# Altium integrated library Oscillator - Crystal.IntLib: 422 symbols (part 3 of 7)
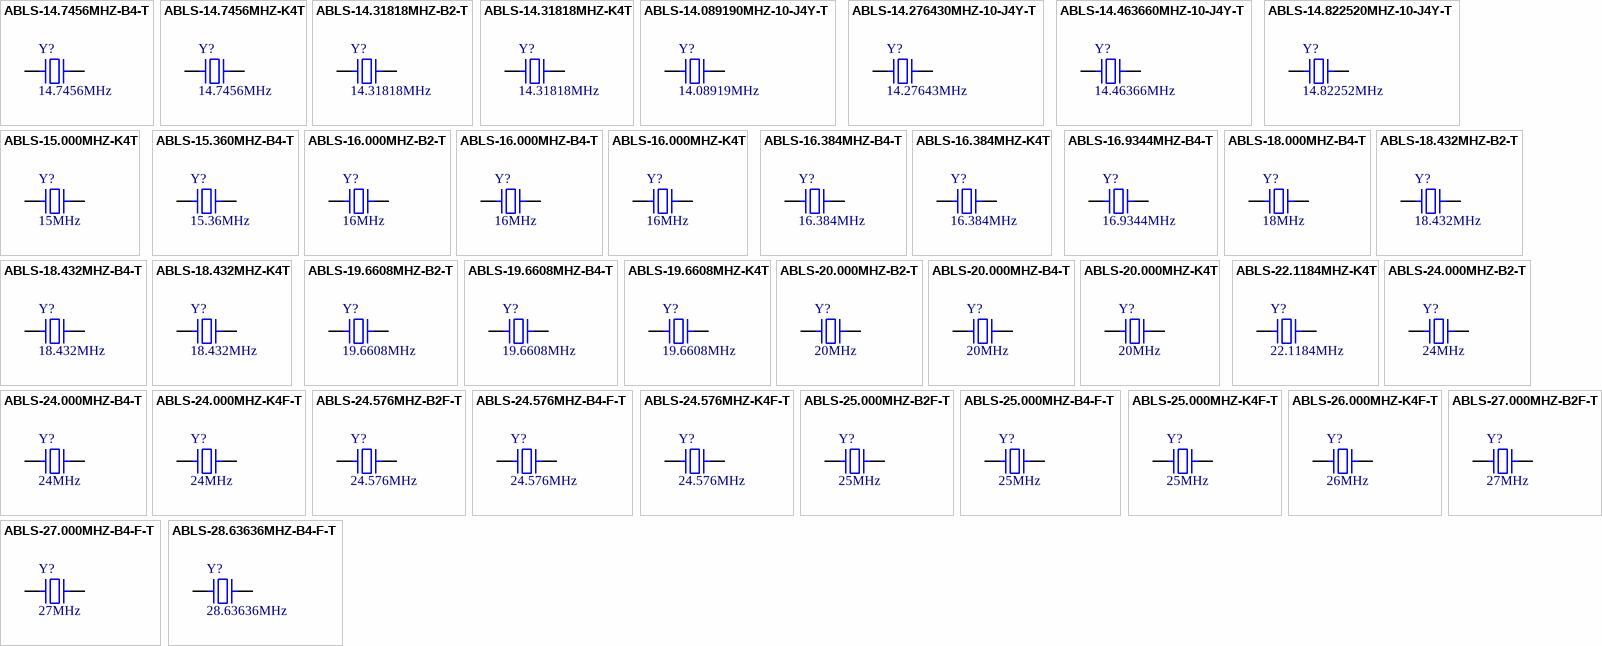
[diagram p12: symbols ABLS-14.7456MHZ-B4-T to ABLS-28.63636MHZ-B4-F-T]

## ABLS-18.432MHZ-K4T
designator Y?, comment 18.432MHz
CRYSTAL 18.4320MHZ 18PF SMD; Part Number: ABLS-18.432MHZ-K4T; Manufacturer: Abracon LLC; Frequency Stability: 50ppm; Frequency Tolerance: 30ppm; ESR: 40 Ohm; Operating Mode: Fundamental; PartId: 8580; Supplier 1: Digi-Key; Supplier Part Number 1: 535-9950-2-ND; ComponentLink1Description: Datasheet; ComponentLink1URL: http://www.abracon.com/Resonators/abls.pdf; ComponentLink2Description: Digi-Key Listing; ComponentLink2URL: https://www.digikey.com/product-detail/en/ABLS-18.432MHZ-K4T/535-9950-2-ND/2001317; Price: 0.405; Type: MHz Crystal; Device Package: HC49/US; Series: ABLS; Frequency: 18.432MHz; Load Capacitance: 18pF
footprint ABRACON ABLS
pins: 1, 2

## ABLS-19.6608MHZ-B2-T
designator Y?, comment 19.6608MHz
CRYSTAL 19.6608MHZ 18PF SMD; Part Number: ABLS-19.6608MHZ-B2-T; Manufacturer: Abracon LLC; Frequency Stability: 50ppm; Frequency Tolerance: 20ppm; ESR: 40 Ohm; Operating Mode: Fundamental; PartId: 8608; Supplier 1: Digi-Key; Supplier Part Number 1: 535-9073-2-ND; ComponentLink1Description: Datasheet; ComponentLink1URL: http://www.abracon.com/Resonators/abls.pdf; ComponentLink2Description: Digi-Key Listing; ComponentLink2URL: https://www.digikey.com/product-detail/en/ABLS-19.6608MHZ-B2-T/535-9073-2-ND/675268; Price: 0.24; Type: MHz Crystal; Device Package: HC49/US; Series: ABLS; Frequency: 19.6608MHz; Load Capacitance: 18pF
footprint ABRACON ABLS
pins: 1, 2

## ABLS-19.6608MHZ-B4-T
designator Y?, comment 19.6608MHz
CRYSTAL 19.6608MHZ 18PF SMD; Part Number: ABLS-19.6608MHZ-B4-T; Manufacturer: Abracon LLC; Frequency Stability: 50ppm; Frequency Tolerance: 30ppm; ESR: 40 Ohm; Operating Mode: Fundamental; PartId: 8603; Supplier 1: Digi-Key; Supplier Part Number 1: 535-10231-2-ND; ComponentLink1Description: Datasheet; ComponentLink1URL: http://www.abracon.com/Resonators/abls.pdf; ComponentLink2Description: Digi-Key Listing; ComponentLink2URL: https://www.digikey.com/product-detail/en/ABLS-19.6608MHZ-B4-T/535-10231-2-ND/2184174; Price: 0.176; Type: MHz Crystal; Device Package: HC49/US; Series: ABLS; Frequency: 19.6608MHz; Load Capacitance: 18pF
footprint ABRACON ABLS
pins: 1, 2

## ABLS-19.6608MHZ-K4T
designator Y?, comment 19.6608MHz
CRYSTAL 19.6608MHZ 18PF SMD; Part Number: ABLS-19.6608MHZ-K4T; Manufacturer: Abracon LLC; Frequency Stability: 50ppm; Frequency Tolerance: 30ppm; ESR: 40 Ohm; Operating Mode: Fundamental; PartId: 8623; Supplier 1: Digi-Key; Supplier Part Number 1: 535-9951-2-ND; ComponentLink1Description: Datasheet; ComponentLink1URL: http://www.abracon.com/Resonators/abls.pdf; ComponentLink2Description: Digi-Key Listing; ComponentLink2URL: https://www.digikey.com/product-detail/en/ABLS-19.6608MHZ-K4T/535-9951-2-ND/2001318; Price: 0.405; Type: MHz Crystal; Device Package: HC49/US; Series: ABLS; Frequency: 19.6608MHz; Load Capacitance: 18pF
footprint ABRACON ABLS
pins: 1, 2

## ABLS-20.000MHZ-B2-T
designator Y?, comment 20MHz
CRYSTAL 20.0000MHZ 18PF SMD; Part Number: ABLS-20.000MHZ-B2-T; Manufacturer: Abracon LLC; Frequency Stability: 50ppm; Frequency Tolerance: 20ppm; ESR: 40 Ohm; Operating Mode: Fundamental; PartId: 8549; Supplier 1: Digi-Key; Supplier Part Number 1: 535-9074-2-ND; ComponentLink1Description: Datasheet; ComponentLink1URL: http://www.abracon.com/Resonators/abls.pdf; ComponentLink2Description: Digi-Key Listing; ComponentLink2URL: https://www.digikey.com/product-detail/en/ABLS-20.000MHZ-B2-T/535-9074-2-ND/675269; Price: 0.144; Type: MHz Crystal; Device Package: HC49/US; Series: ABLS; Frequency: 20MHz; Load Capacitance: 18pF
footprint ABRACON ABLS
pins: 1, 2

## ABLS-20.000MHZ-B4-T
designator Y?, comment 20MHz
CRYSTAL 20.0000MHZ 18PF SMD; Part Number: ABLS-20.000MHZ-B4-T; Manufacturer: Abracon LLC; Frequency Stability: 50ppm; Frequency Tolerance: 30ppm; ESR: 40 Ohm; Operating Mode: Fundamental; PartId: 8557; Supplier 1: Digi-Key; Supplier Part Number 1: 535-10232-2-ND; ComponentLink1Description: Datasheet; ComponentLink1URL: http://www.abracon.com/Resonators/abls.pdf; ComponentLink2Description: Digi-Key Listing; ComponentLink2URL: https://www.digikey.com/product-detail/en/ABLS-20.000MHZ-B4-T/535-10232-2-ND/2184175; Price: 0.16; Type: MHz Crystal; Device Package: HC49/US; Series: ABLS; Frequency: 20MHz; Load Capacitance: 18pF
footprint ABRACON ABLS
pins: 1, 2

## ABLS-20.000MHZ-K4T
designator Y?, comment 20MHz
CRYSTAL 20.0000MHZ 18PF SMD; Part Number: ABLS-20.000MHZ-K4T; Manufacturer: Abracon LLC; Frequency Stability: 50ppm; Frequency Tolerance: 30ppm; ESR: 40 Ohm; Operating Mode: Fundamental; PartId: 8613; Supplier 1: Digi-Key; Supplier Part Number 1: 535-9952-2-ND; ComponentLink1Description: Datasheet; ComponentLink1URL: http://www.abracon.com/Resonators/abls.pdf; ComponentLink2Description: Digi-Key Listing; ComponentLink2URL: https://www.digikey.com/product-detail/en/ABLS-20.000MHZ-K4T/535-9952-2-ND/2001319; Price: 0.405; Type: MHz Crystal; Device Package: HC49/US; Series: ABLS; Frequency: 20MHz; Load Capacitance: 18pF
footprint ABRACON ABLS
pins: 1, 2

## ABLS-22.1184MHZ-K4T
designator Y?, comment 22.1184MHz
CRYSTAL 22.1184MHZ 18PF SMD; Part Number: ABLS-22.1184MHZ-K4T; Manufacturer: Abracon LLC; Frequency Stability: 50ppm; Frequency Tolerance: 30ppm; ESR: 40 Ohm; Operating Mode: Fundamental; PartId: 8622; Supplier 1: Digi-Key; Supplier Part Number 1: 535-9953-2-ND; ComponentLink1Description: Datasheet; ComponentLink1URL: http://www.abracon.com/Resonators/abls.pdf; ComponentLink2Description: Digi-Key Listing; ComponentLink2URL: https://www.digikey.com/product-detail/en/ABLS-22.1184MHZ-K4T/535-9953-2-ND/2001320; Price: 0.405; Type: MHz Crystal; Device Package: HC49/US; Series: ABLS; Frequency: 22.1184MHz; Load Capacitance: 18pF
footprint ABRACON ABLS
pins: 1, 2

## ABLS-24.000MHZ-B2-T
designator Y?, comment 24MHz
CRYSTAL 24.0000MHZ 18PF SMD; Part Number: ABLS-24.000MHZ-B2-T; Manufacturer: Abracon LLC; Frequency Stability: 50ppm; Frequency Tolerance: 20ppm; ESR: 40 Ohm; Operating Mode: Fundamental; PartId: 8577; Supplier 1: Digi-Key; Supplier Part Number 1: 535-9076-2-ND; ComponentLink1Description: Datasheet; ComponentLink1URL: http://www.abracon.com/Resonators/abls.pdf; ComponentLink2Description: Digi-Key Listing; ComponentLink2URL: https://www.digikey.com/product-detail/en/ABLS-24.000MHZ-B2-T/535-9076-2-ND/675271; Price: 0.24; Type: MHz Crystal; Device Package: HC49/US; Series: ABLS; Frequency: 24MHz; Load Capacitance: 18pF
footprint ABRACON ABLS
pins: 1, 2

## ABLS-24.000MHZ-B4-T
designator Y?, comment 24MHz
CRYSTAL 24.0000MHZ 18PF SMD; Part Number: ABLS-24.000MHZ-B4-T; Manufacturer: Abracon LLC; Frequency Stability: 50ppm; Frequency Tolerance: 30ppm; ESR: 40 Ohm; Operating Mode: Fundamental; PartId: 8559; Supplier 1: Digi-Key; Supplier Part Number 1: 535-10233-2-ND; ComponentLink1Description: Datasheet; ComponentLink1URL: http://www.abracon.com/Resonators/abls.pdf; ComponentLink2Description: Digi-Key Listing; ComponentLink2URL: https://www.digikey.com/product-detail/en/ABLS-24.000MHZ-B4-T/535-10233-2-ND/2184176; Price: 0.176; Type: MHz Crystal; Device Package: HC49/US; Series: ABLS; Frequency: 24MHz; Load Capacitance: 18pF
footprint ABRACON ABLS
pins: 1, 2

## ABLS-24.000MHZ-K4F-T
designator Y?, comment 24MHz
CRYSTAL 24.0000MHZ 18PF SMD; Part Number: ABLS-24.000MHZ-K4F-T; Manufacturer: Abracon LLC; Frequency Stability: 50ppm; Frequency Tolerance: 30ppm; ESR: 40 Ohm; Operating Mode: Fundamental; PartId: 8625; Supplier 1: Digi-Key; Supplier Part Number 1: 535-9954-2-ND; ComponentLink1Description: Datasheet; ComponentLink1URL: http://www.abracon.com/Resonators/abls.pdf; ComponentLink2Description: Digi-Key Listing; ComponentLink2URL: https://www.digikey.com/product-detail/en/ABLS-24.000MHZ-K4F-T/535-9954-2-ND/2001321; Price: 0.405; Type: MHz Crystal; Device Package: HC49/US; Series: ABLS; Frequency: 24MHz; Load Capacitance: 18pF
footprint ABRACON ABLS
pins: 1, 2

## ABLS-24.576MHZ-B2F-T
designator Y?, comment 24.576MHz
CRYSTAL 24.5760MHZ 18PF SMD; Part Number: ABLS-24.576MHZ-B2F-T; Manufacturer: Abracon LLC; Frequency Stability: 50ppm; Frequency Tolerance: 20ppm; ESR: 40 Ohm; Operating Mode: Fundamental; PartId: 8586; Supplier 1: Digi-Key; Supplier Part Number 1: 535-9077-2-ND; ComponentLink1Description: Datasheet; ComponentLink1URL: http://www.abracon.com/Resonators/abls.pdf; ComponentLink2Description: Digi-Key Listing; ComponentLink2URL: https://www.digikey.com/product-detail/en/ABLS-24.576MHZ-B2F-T/535-9077-2-ND/675272; Price: 0.24; Type: MHz Crystal; Device Package: HC49/US; Series: ABLS; Frequency: 24.576MHz; Load Capacitance: 18pF
footprint ABRACON ABLS
pins: 1, 2

## ABLS-24.576MHZ-B4-F-T
designator Y?, comment 24.576MHz
CRYSTAL 24.5760MHZ 18PF SMD; Part Number: ABLS-24.576MHZ-B4-F-T; Manufacturer: Abracon LLC; Frequency Stability: 50ppm; Frequency Tolerance: 30ppm; ESR: 40 Ohm; Operating Mode: Fundamental; PartId: 8582; Supplier 1: Digi-Key; Supplier Part Number 1: 535-10234-2-ND; ComponentLink1Description: Datasheet; ComponentLink1URL: http://www.abracon.com/Resonators/abls.pdf; ComponentLink2Description: Digi-Key Listing; ComponentLink2URL: https://www.digikey.com/product-detail/en/ABLS-24.576MHZ-B4-F-T/535-10234-2-ND/2184177; Price: 0.176; Type: MHz Crystal; Device Package: HC49/US; Series: ABLS; Frequency: 24.576MHz; Load Capacitance: 18pF
footprint ABRACON ABLS
pins: 1, 2

## ABLS-24.576MHZ-K4F-T
designator Y?, comment 24.576MHz
CRYSTAL 24.5760MHZ 18PF SMD; Part Number: ABLS-24.576MHZ-K4F-T; Manufacturer: Abracon LLC; Frequency Stability: 50ppm; Frequency Tolerance: 30ppm; ESR: 40 Ohm; Operating Mode: Fundamental; PartId: 8621; Supplier 1: Digi-Key; Supplier Part Number 1: 535-9955-2-ND; ComponentLink1Description: Datasheet; ComponentLink1URL: http://www.abracon.com/Resonators/abls.pdf; ComponentLink2Description: Digi-Key Listing; ComponentLink2URL: https://www.digikey.com/product-detail/en/ABLS-24.576MHZ-K4F-T/535-9955-2-ND/2001322; Price: 0.405; Type: MHz Crystal; Device Package: HC49/US; Series: ABLS; Frequency: 24.576MHz; Load Capacitance: 18pF
footprint ABRACON ABLS
pins: 1, 2

## ABLS-25.000MHZ-B2F-T
designator Y?, comment 25MHz
CRYSTAL 25.0000MHZ 18PF SMD; Part Number: ABLS-25.000MHZ-B2F-T; Manufacturer: Abracon LLC; Frequency Stability: 50ppm; Frequency Tolerance: 20ppm; ESR: 40 Ohm; Operating Mode: Fundamental; PartId: 8596; Supplier 1: Digi-Key; Supplier Part Number 1: 535-9078-2-ND; ComponentLink1Description: Datasheet; ComponentLink1URL: http://www.abracon.com/Resonators/abls.pdf; ComponentLink2Description: Digi-Key Listing; ComponentLink2URL: https://www.digikey.com/product-detail/en/ABLS-25.000MHZ-B2F-T/535-9078-2-ND/675273; Price: 0.144; Type: MHz Crystal; Device Package: HC49/US; Series: ABLS; Frequency: 25MHz; Load Capacitance: 18pF
footprint ABRACON ABLS
pins: 1, 2

## ABLS-25.000MHZ-B4-F-T
designator Y?, comment 25MHz
CRYSTAL 25.0000MHZ 18PF SMD; Part Number: ABLS-25.000MHZ-B4-F-T; Manufacturer: Abracon LLC; Frequency Stability: 50ppm; Frequency Tolerance: 30ppm; ESR: 40 Ohm; Operating Mode: Fundamental; PartId: 8553; Supplier 1: Digi-Key; Supplier Part Number 1: 535-10235-2-ND; ComponentLink1Description: Datasheet; ComponentLink1URL: http://www.abracon.com/Resonators/abls.pdf; ComponentLink2Description: Digi-Key Listing; ComponentLink2URL: https://www.digikey.com/product-detail/en/ABLS-25.000MHZ-B4-F-T/535-10235-2-ND/2184178; Price: 0.1376; Type: MHz Crystal; Device Package: HC49/US; Series: ABLS; Frequency: 25MHz; Load Capacitance: 18pF
footprint ABRACON ABLS
pins: 1, 2

## ABLS-25.000MHZ-K4F-T
designator Y?, comment 25MHz
CRYSTAL 25.0000MHZ 18PF SMD; Part Number: ABLS-25.000MHZ-K4F-T; Manufacturer: Abracon LLC; Frequency Stability: 50ppm; Frequency Tolerance: 30ppm; ESR: 40 Ohm; Operating Mode: Fundamental; PartId: 8614; Supplier 1: Digi-Key; Supplier Part Number 1: 535-9956-2-ND; ComponentLink1Description: Datasheet; ComponentLink1URL: http://www.abracon.com/Resonators/abls.pdf; ComponentLink2Description: Digi-Key Listing; ComponentLink2URL: https://www.digikey.com/product-detail/en/ABLS-25.000MHZ-K4F-T/535-9956-2-ND/2001323; Price: 0.405; Type: MHz Crystal; Device Package: HC49/US; Series: ABLS; Frequency: 25MHz; Load Capacitance: 18pF
footprint ABRACON ABLS
pins: 1, 2

## ABLS-26.000MHZ-K4F-T
designator Y?, comment 26MHz
CRYSTAL 26.0000MHZ 18PF SMD; Part Number: ABLS-26.000MHZ-K4F-T; Manufacturer: Abracon LLC; Frequency Stability: 50ppm; Frequency Tolerance: 30ppm; ESR: 40 Ohm; Operating Mode: Fundamental; PartId: 8624; Supplier 1: Digi-Key; Supplier Part Number 1: 535-9957-2-ND; ComponentLink1Description: Datasheet; ComponentLink1URL: http://www.abracon.com/Resonators/abls.pdf; ComponentLink2Description: Digi-Key Listing; ComponentLink2URL: https://www.digikey.com/product-detail/en/ABLS-26.000MHZ-K4F-T/535-9957-2-ND/2001324; Price: 0.405; Type: MHz Crystal; Device Package: HC49/US; Series: ABLS; Frequency: 26MHz; Load Capacitance: 18pF
footprint ABRACON ABLS
pins: 1, 2

## ABLS-27.000MHZ-B2F-T
designator Y?, comment 27MHz
CRYSTAL 27.0000MHZ 18PF SMD; Part Number: ABLS-27.000MHZ-B2F-T; Manufacturer: Abracon LLC; Frequency Stability: 50ppm; Frequency Tolerance: 20ppm; ESR: 40 Ohm; Operating Mode: Fundamental; PartId: 8587; Supplier 1: Digi-Key; Supplier Part Number 1: 535-9079-2-ND; ComponentLink1Description: Datasheet; ComponentLink1URL: http://www.abracon.com/Resonators/abls.pdf; ComponentLink2Description: Digi-Key Listing; ComponentLink2URL: https://www.digikey.com/product-detail/en/ABLS-27.000MHZ-B2F-T/535-9079-2-ND/675274; Price: 0.24; Type: MHz Crystal; Device Package: HC49/US; Series: ABLS; Frequency: 27MHz; Load Capacitance: 18pF
footprint ABRACON ABLS
pins: 1, 2

## ABLS-27.000MHZ-B4-F-T
designator Y?, comment 27MHz
CRYSTAL 27.0000MHZ 18PF SMD; Part Number: ABLS-27.000MHZ-B4-F-T; Manufacturer: Abracon LLC; Frequency Stability: 50ppm; Frequency Tolerance: 30ppm; ESR: 40 Ohm; Operating Mode: Fundamental; PartId: 8581; Supplier 1: Digi-Key; Supplier Part Number 1: 535-10236-2-ND; ComponentLink1Description: Datasheet; ComponentLink1URL: http://www.abracon.com/Resonators/abls.pdf; ComponentLink2Description: Digi-Key Listing; ComponentLink2URL: https://www.digikey.com/product-detail/en/ABLS-27.000MHZ-B4-F-T/535-10236-2-ND/2184179; Price: 0.176; Type: MHz Crystal; Device Package: HC49/US; Series: ABLS; Frequency: 27MHz; Load Capacitance: 18pF
footprint ABRACON ABLS
pins: 1, 2

## ABLS-28.63636MHZ-B4-F-T
designator Y?, comment 28.63636MHz
CRYSTAL 28.63636MHZ 18PF SMD; Part Number: ABLS-28.63636MHZ-B4-F-T; Manufacturer: Abracon LLC; Frequency Stability: 50ppm; Frequency Tolerance: 30ppm; ESR: 40 Ohm; Operating Mode: Fundamental; PartId: 8560; Supplier 1: Digi-Key; Supplier Part Number 1: 535-10237-2-ND; ComponentLink1Description: Datasheet; ComponentLink1URL: http://www.abracon.com/Resonators/abls.pdf; ComponentLink2Description: Digi-Key Listing; ComponentLink2URL: https://www.digikey.com/product-detail/en/ABLS-28.63636MHZ-B4-F-T/535-10237-2-ND/2184180; Price: 0.176; Type: MHz Crystal; Device Package: HC49/US; Series: ABLS; Frequency: 28.63636MHz; Load Capacitance: 18pF
footprint ABRACON ABLS
pins: 1, 2

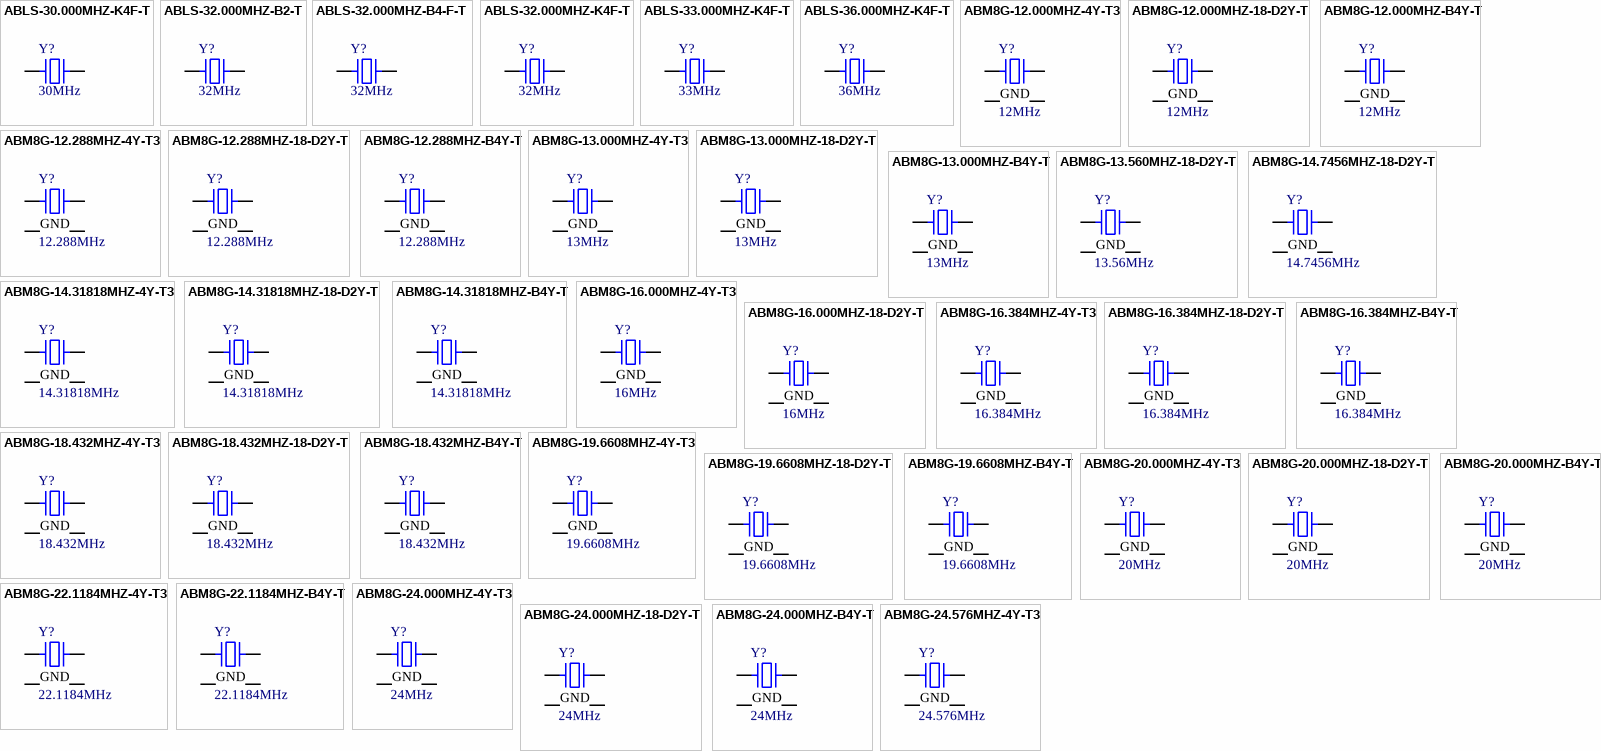
[diagram p4: symbols ABLS-30.000MHZ-K4F-T to ABM8G-24.576MHZ-4Y-T3]

## ABLS-30.000MHZ-K4F-T
designator Y?, comment 30MHz
CRYSTAL 30.0000MHZ 18PF SMD; Part Number: ABLS-30.000MHZ-K4F-T; Manufacturer: Abracon LLC; Frequency Stability: 50ppm; Frequency Tolerance: 30ppm; ESR: 40 Ohm; Operating Mode: Fundamental; PartId: 8594; Supplier 1: Digi-Key; Supplier Part Number 1: 535-9959-2-ND; ComponentLink1Description: Datasheet; ComponentLink1URL: http://www.abracon.com/Resonators/abls.pdf; ComponentLink2Description: Digi-Key Listing; ComponentLink2URL: https://www.digikey.com/product-detail/en/ABLS-30.000MHZ-K4F-T/535-9959-2-ND/2001326; Price: 0.435; Type: MHz Crystal; Device Package: HC49/US; Series: ABLS; Frequency: 30MHz; Load Capacitance: 18pF
footprint ABRACON ABLS
pins: 1, 2

## ABLS-32.000MHZ-B2-T
designator Y?, comment 32MHz
CRYSTAL 32.0000MHZ 18PF SMD; Part Number: ABLS-32.000MHZ-B2-T; Manufacturer: Abracon LLC; Frequency Stability: 50ppm; Frequency Tolerance: 20ppm; ESR: 80 Ohm; Operating Mode: 3rd Overtone; PartId: 8589; Supplier 1: Digi-Key; Supplier Part Number 1: 535-9080-2-ND; ComponentLink1Description: Datasheet; ComponentLink1URL: http://www.abracon.com/Resonators/abls.pdf; ComponentLink2Description: Digi-Key Listing; ComponentLink2URL: https://www.digikey.com/product-detail/en/ABLS-32.000MHZ-B2-T/535-9080-2-ND/675275; Price: 0.24; Type: MHz Crystal; Device Package: HC49/US; Series: ABLS; Frequency: 32MHz; Load Capacitance: 18pF
footprint ABRACON ABLS
pins: 1, 2

## ABLS-32.000MHZ-B4-F-T
designator Y?, comment 32MHz
CRYSTAL 32.0000MHZ 18PF SMD; Part Number: ABLS-32.000MHZ-B4-F-T; Manufacturer: Abracon LLC; Frequency Stability: 50ppm; Frequency Tolerance: 30ppm; ESR: 40 Ohm; Operating Mode: Fundamental; PartId: 8600; Supplier 1: Digi-Key; Supplier Part Number 1: 535-10239-2-ND; ComponentLink1Description: Datasheet; ComponentLink1URL: http://www.abracon.com/Resonators/abls.pdf; ComponentLink2Description: Digi-Key Listing; ComponentLink2URL: https://www.digikey.com/product-detail/en/ABLS-32.000MHZ-B4-F-T/535-10239-2-ND/2184182; Price: 0.176; Type: MHz Crystal; Device Package: HC49/US; Series: ABLS; Frequency: 32MHz; Load Capacitance: 18pF
footprint ABRACON ABLS
pins: 1, 2

## ABLS-32.000MHZ-K4F-T
designator Y?, comment 32MHz
CRYSTAL 32.0000MHZ 18PF SMD; Part Number: ABLS-32.000MHZ-K4F-T; Manufacturer: Abracon LLC; Frequency Stability: 50ppm; Frequency Tolerance: 30ppm; ESR: 40 Ohm; Operating Mode: Fundamental; PartId: 8628; Supplier 1: Digi-Key; Supplier Part Number 1: 535-9960-2-ND; ComponentLink1Description: Datasheet; ComponentLink1URL: http://www.abracon.com/Resonators/abls.pdf; ComponentLink2Description: Digi-Key Listing; ComponentLink2URL: https://www.digikey.com/product-detail/en/ABLS-32.000MHZ-K4F-T/535-9960-2-ND/2001327; Price: 0.435; Type: MHz Crystal; Device Package: HC49/US; Series: ABLS; Frequency: 32MHz; Load Capacitance: 18pF
footprint ABRACON ABLS
pins: 1, 2

## ABLS-33.000MHZ-K4F-T
designator Y?, comment 33MHz
CRYSTAL 33.0000MHZ 18PF SMD; Part Number: ABLS-33.000MHZ-K4F-T; Manufacturer: Abracon LLC; Frequency Stability: 50ppm; Frequency Tolerance: 30ppm; ESR: 40 Ohm; Operating Mode: Fundamental; PartId: 8626; Supplier 1: Digi-Key; Supplier Part Number 1: 535-9961-2-ND; ComponentLink1Description: Datasheet; ComponentLink1URL: http://www.abracon.com/Resonators/abls.pdf; ComponentLink2Description: Digi-Key Listing; ComponentLink2URL: https://www.digikey.com/product-detail/en/ABLS-33.000MHZ-K4F-T/535-9961-2-ND/2001328; Price: 0.435; Type: MHz Crystal; Device Package: HC49/US; Series: ABLS; Frequency: 33MHz; Load Capacitance: 18pF
footprint ABRACON ABLS
pins: 1, 2

## ABLS-36.000MHZ-K4F-T
designator Y?, comment 36MHz
CRYSTAL 36.0000MHZ 18PF SMD; Part Number: ABLS-36.000MHZ-K4F-T; Manufacturer: Abracon LLC; Frequency Stability: 50ppm; Frequency Tolerance: 30ppm; ESR: 40 Ohm; Operating Mode: Fundamental; PartId: 8627; Supplier 1: Digi-Key; Supplier Part Number 1: 535-9962-2-ND; ComponentLink1Description: Datasheet; ComponentLink1URL: http://www.abracon.com/Resonators/abls.pdf; ComponentLink2Description: Digi-Key Listing; ComponentLink2URL: https://www.digikey.com/product-detail/en/ABLS-36.000MHZ-K4F-T/535-9962-2-ND/2001329; Price: 0.435; Type: MHz Crystal; Device Package: HC49/US; Series: ABLS; Frequency: 36MHz; Load Capacitance: 18pF
footprint ABRACON ABLS
pins: 1, 2

## ABM8G-12.000MHZ-4Y-T3
designator Y?, comment 12MHz
CRYSTAL 12.0000MHZ 10PF SMD; Part Number: ABM8G-12.000MHZ-4Y-T3; Manufacturer: Abracon LLC; Frequency Stability: 30ppm; ESR: 120 Ohm; Operating Mode: Fundamental; PartId: 8771; Supplier 1: Digi-Key; Supplier Part Number 1: 535-10901-2-ND; ComponentLink1Description: Datasheet; ComponentLink1URL: http://www.abracon.com/Resonators/ABM8G.pdf; ComponentLink2Description: Digi-Key Listing; ComponentLink2URL: https://www.digikey.com/product-detail/en/ABM8G-12.000MHZ-4Y-T3/535-10901-2-ND/2623783; Price: 0.24; Type: MHz Crystal; Device Package: 4-SMD, No Lead (DFN, LCC); Series: ABM8G; Frequency: 12MHz; Frequency Tolerance: 30ppm; Load Capacitance: 10pF
footprint ABRACON ABM8G
pins: 1, 2 GND, 3, 4 GND

## ABM8G-12.000MHZ-18-D2Y-T
designator Y?, comment 12MHz
CRYSTAL 12.0000MHZ 18PF SMD; Part Number: ABM8G-12.000MHZ-18-D2Y-T; Manufacturer: Abracon LLC; Frequency Stability: 30ppm; Frequency Tolerance: 20ppm; ESR: 120 Ohm; Operating Mode: Fundamental; PartId: 8737; Supplier 1: Digi-Key; Supplier Part Number 1: 535-10261-2-ND; ComponentLink1Description: Datasheet; ComponentLink1URL: http://www.abracon.com/Resonators/ABM8G.pdf; ComponentLink2Description: Digi-Key Listing; ComponentLink2URL: https://www.digikey.com/product-detail/en/ABM8G-12.000MHZ-18-D2Y-T/535-10261-2-ND/2218007; Price: 0.368; Type: MHz Crystal; Device Package: 4-SMD, No Lead (DFN, LCC); Series: ABM8G; Frequency: 12MHz; Load Capacitance: 18pF
footprint ABRACON ABM8G
pins: 1, 2 GND, 3, 4 GND

## ABM8G-12.000MHZ-B4Y-T
designator Y?, comment 12MHz
CRYSTAL 12.0000MHZ 10PF SMD; Part Number: ABM8G-12.000MHZ-B4Y-T; Manufacturer: Abracon LLC; Frequency Stability: 30ppm; ESR: 120 Ohm; Operating Mode: Fundamental; PartId: 8734; Supplier 1: Digi-Key; Supplier Part Number 1: 535-10283-2-ND; ComponentLink1Description: Datasheet; ComponentLink1URL: http://www.abracon.com/Resonators/ABM8G.pdf; ComponentLink2Description: Digi-Key Listing; ComponentLink2URL: https://www.digikey.com/product-detail/en/ABM8G-12.000MHZ-B4Y-T/535-10283-2-ND/2218029; Price: 0.336; Type: MHz Crystal; Device Package: 4-SMD, No Lead (DFN, LCC); Series: ABM8G; Frequency: 12MHz; Frequency Tolerance: 30ppm; Load Capacitance: 10pF
footprint ABRACON ABM8G
pins: 1, 2 GND, 3, 4 GND

## ABM8G-12.288MHZ-4Y-T3
designator Y?, comment 12.288MHz
CRYSTAL 12.2880MHZ 10PF SMD; Part Number: ABM8G-12.288MHZ-4Y-T3; Manufacturer: Abracon LLC; Frequency Stability: 30ppm; ESR: 80 Ohm; Operating Mode: Fundamental; PartId: 8774; Supplier 1: Digi-Key; Supplier Part Number 1: 535-10902-2-ND; ComponentLink1Description: Datasheet; ComponentLink1URL: http://www.abracon.com/Resonators/ABM8G.pdf; ComponentLink2Description: Digi-Key Listing; ComponentLink2URL: https://www.digikey.com/product-detail/en/ABM8G-12.288MHZ-4Y-T3/535-10902-2-ND/2623784; Price: 0.3915; Type: MHz Crystal; Device Package: 4-SMD, No Lead (DFN, LCC); Series: ABM8G; Frequency: 12.288MHz; Frequency Tolerance: 30ppm; Load Capacitance: 10pF
footprint ABRACON ABM8G
pins: 1, 2 GND, 3, 4 GND

## ABM8G-12.288MHZ-18-D2Y-T
designator Y?, comment 12.288MHz
CRYSTAL 12.2880MHZ 18PF SMD; Part Number: ABM8G-12.288MHZ-18-D2Y-T; Manufacturer: Abracon LLC; Frequency Stability: 30ppm; Frequency Tolerance: 20ppm; ESR: 80 Ohm; Operating Mode: Fundamental; PartId: 8766; Supplier 1: Digi-Key; Supplier Part Number 1: 535-10262-2-ND; ComponentLink1Description: Datasheet; ComponentLink1URL: http://www.abracon.com/Resonators/ABM8G.pdf; ComponentLink2Description: Digi-Key Listing; ComponentLink2URL: https://www.digikey.com/product-detail/en/ABM8G-12.288MHZ-18-D2Y-T/535-10262-2-ND/2218008; Price: 0.585; Type: MHz Crystal; Device Package: 4-SMD, No Lead (DFN, LCC); Series: ABM8G; Frequency: 12.288MHz; Load Capacitance: 18pF
footprint ABRACON ABM8G
pins: 1, 2 GND, 3, 4 GND

## ABM8G-12.288MHZ-B4Y-T
designator Y?, comment 12.288MHz
CRYSTAL 12.2880MHZ 10PF SMD; Part Number: ABM8G-12.288MHZ-B4Y-T; Manufacturer: Abracon LLC; Frequency Stability: 30ppm; ESR: 80 Ohm; Operating Mode: Fundamental; PartId: 8761; Supplier 1: Digi-Key; Supplier Part Number 1: 535-10284-2-ND; ComponentLink1Description: Datasheet; ComponentLink1URL: http://www.abracon.com/Resonators/ABM8G.pdf; ComponentLink2Description: Digi-Key Listing; ComponentLink2URL: https://www.digikey.com/product-detail/en/ABM8G-12.288MHZ-B4Y-T/535-10284-2-ND/2218030; Price: 0.495; Type: MHz Crystal; Device Package: 4-SMD, No Lead (DFN, LCC); Series: ABM8G; Frequency: 12.288MHz; Frequency Tolerance: 30ppm; Load Capacitance: 10pF
footprint ABRACON ABM8G
pins: 1, 2 GND, 3, 4 GND

## ABM8G-13.000MHZ-4Y-T3
designator Y?, comment 13MHz
CRYSTAL 13.0000MHZ 10PF SMD; Part Number: ABM8G-13.000MHZ-4Y-T3; Manufacturer: Abracon LLC; Frequency Stability: 30ppm; ESR: 80 Ohm; Operating Mode: Fundamental; PartId: 8786; Supplier 1: Digi-Key; Supplier Part Number 1: 535-10903-2-ND; ComponentLink1Description: Datasheet; ComponentLink1URL: http://www.abracon.com/Resonators/ABM8G.pdf; ComponentLink2Description: Digi-Key Listing; ComponentLink2URL: https://www.digikey.com/product-detail/en/ABM8G-13.000MHZ-4Y-T3/535-10903-2-ND/2623785; Price: 0.3915; Type: MHz Crystal; Device Package: 4-SMD, No Lead (DFN, LCC); Series: ABM8G; Frequency: 13MHz; Frequency Tolerance: 30ppm; Load Capacitance: 10pF
footprint ABRACON ABM8G
pins: 1, 2 GND, 3, 4 GND

## ABM8G-13.000MHZ-18-D2Y-T
designator Y?, comment 13MHz
CRYSTAL 13.0000MHZ 18PF SMD; Part Number: ABM8G-13.000MHZ-18-D2Y-T; Manufacturer: Abracon LLC; Frequency Stability: 30ppm; Frequency Tolerance: 20ppm; ESR: 80 Ohm; Operating Mode: Fundamental; PartId: 8769; Supplier 1: Digi-Key; Supplier Part Number 1: 535-10263-2-ND; ComponentLink1Description: Datasheet; ComponentLink1URL: http://www.abracon.com/Resonators/ABM8G.pdf; ComponentLink2Description: Digi-Key Listing; ComponentLink2URL: https://www.digikey.com/product-detail/en/ABM8G-13.000MHZ-18-D2Y-T/535-10263-2-ND/2218009; Price: 0.585; Type: MHz Crystal; Device Package: 4-SMD, No Lead (DFN, LCC); Series: ABM8G; Frequency: 13MHz; Load Capacitance: 18pF
footprint ABRACON ABM8G
pins: 1, 2 GND, 3, 4 GND

## ABM8G-13.000MHZ-B4Y-T
designator Y?, comment 13MHz
CRYSTAL 13.0000MHZ 10PF SMD; Part Number: ABM8G-13.000MHZ-B4Y-T; Manufacturer: Abracon LLC; Frequency Stability: 30ppm; ESR: 80 Ohm; Operating Mode: Fundamental; PartId: 8756; Supplier 1: Digi-Key; Supplier Part Number 1: 535-10285-2-ND; ComponentLink1Description: Datasheet; ComponentLink1URL: http://www.abracon.com/Resonators/ABM8G.pdf; ComponentLink2Description: Digi-Key Listing; ComponentLink2URL: https://www.digikey.com/product-detail/en/ABM8G-13.000MHZ-B4Y-T/535-10285-2-ND/2218031; Price: 0.495; Type: MHz Crystal; Device Package: 4-SMD, No Lead (DFN, LCC); Series: ABM8G; Frequency: 13MHz; Frequency Tolerance: 30ppm; Load Capacitance: 10pF
footprint ABRACON ABM8G
pins: 1, 2 GND, 3, 4 GND

## ABM8G-13.560MHZ-18-D2Y-T
designator Y?, comment 13.56MHz
CRYSTAL 13.5600MHZ 18PF SMD; Part Number: ABM8G-13.560MHZ-18-D2Y-T; Manufacturer: Abracon LLC; Frequency Stability: 30ppm; Frequency Tolerance: 20ppm; ESR: 80 Ohm; Operating Mode: Fundamental; PartId: 8741; Supplier 1: Digi-Key; Supplier Part Number 1: 535-10264-2-ND; ComponentLink1Description: Datasheet; ComponentLink1URL: http://www.abracon.com/Resonators/ABM8G.pdf; ComponentLink2Description: Digi-Key Listing; ComponentLink2URL: https://www.digikey.com/product-detail/en/ABM8G-13.560MHZ-18-D2Y-T/535-10264-2-ND/2218010; Price: 0.368; Type: MHz Crystal; Device Package: 4-SMD, No Lead (DFN, LCC); Series: ABM8G; Frequency: 13.56MHz; Load Capacitance: 18pF
footprint ABRACON ABM8G
pins: 1, 2 GND, 3, 4 GND

## ABM8G-14.7456MHZ-18-D2Y-T
designator Y?, comment 14.7456MHz
CRYSTAL 14.7456MHZ 18PF SMD; Part Number: ABM8G-14.7456MHZ-18-D2Y-T; Manufacturer: Abracon LLC; Frequency Stability: 30ppm; Frequency Tolerance: 20ppm; ESR: 80 Ohm; Operating Mode: Fundamental; PartId: 8743; Supplier 1: Digi-Key; Supplier Part Number 1: 535-10266-2-ND; ComponentLink1Description: Datasheet; ComponentLink1URL: http://www.abracon.com/Resonators/ABM8G.pdf; ComponentLink2Description: Digi-Key Listing; ComponentLink2URL: https://www.digikey.com/product-detail/en/ABM8G-14.7456MHZ-18-D2Y-T/535-10266-2-ND/2218012; Price: 0.384; Type: MHz Crystal; Device Package: 4-SMD, No Lead (DFN, LCC); Series: ABM8G; Frequency: 14.7456MHz; Load Capacitance: 18pF
footprint ABRACON ABM8G
pins: 1, 2 GND, 3, 4 GND

## ABM8G-14.31818MHZ-4Y-T3
designator Y?, comment 14.31818MHz
CRYSTAL 14.31818MHZ 10PF SMD; Part Number: ABM8G-14.31818MHZ-4Y-T3; Manufacturer: Abracon LLC; Frequency Stability: 30ppm; ESR: 80 Ohm; Operating Mode: Fundamental; PartId: 8781; Supplier 1: Digi-Key; Supplier Part Number 1: 535-10905-2-ND; ComponentLink1Description: Datasheet; ComponentLink1URL: http://www.abracon.com/Resonators/ABM8G.pdf; ComponentLink2Description: Digi-Key Listing; ComponentLink2URL: https://www.digikey.com/product-detail/en/ABM8G-14.31818MHZ-4Y-T3/535-10905-2-ND/2623787; Price: 0.3915; Type: MHz Crystal; Device Package: 4-SMD, No Lead (DFN, LCC); Series: ABM8G; Frequency: 14.31818MHz; Frequency Tolerance: 30ppm; Load Capacitance: 10pF
footprint ABRACON ABM8G
pins: 1, 2 GND, 3, 4 GND

## ABM8G-14.31818MHZ-18-D2Y-T
designator Y?, comment 14.31818MHz
CRYSTAL 14.31818MHZ 18PF SMD; Part Number: ABM8G-14.31818MHZ-18-D2Y-T; Manufacturer: Abracon LLC; Frequency Stability: 30ppm; Frequency Tolerance: 20ppm; ESR: 80 Ohm; Operating Mode: Fundamental; PartId: 8767; Supplier 1: Digi-Key; Supplier Part Number 1: 535-10265-2-ND; ComponentLink1Description: Datasheet; ComponentLink1URL: http://www.abracon.com/Resonators/ABM8G.pdf; ComponentLink2Description: Digi-Key Listing; ComponentLink2URL: https://www.digikey.com/product-detail/en/ABM8G-14.31818MHZ-18-D2Y-T/535-10265-2-ND/2218011; Price: 0.585; Type: MHz Crystal; Device Package: 4-SMD, No Lead (DFN, LCC); Series: ABM8G; Frequency: 14.31818MHz; Load Capacitance: 18pF
footprint ABRACON ABM8G
pins: 1, 2 GND, 3, 4 GND

## ABM8G-14.31818MHZ-B4Y-T
designator Y?, comment 14.31818MHz
CRYSTAL 14.31818MHZ 10PF SMD; Part Number: ABM8G-14.31818MHZ-B4Y-T; Manufacturer: Abracon LLC; Frequency Stability: 30ppm; ESR: 80 Ohm; Operating Mode: Fundamental; PartId: 8754; Supplier 1: Digi-Key; Supplier Part Number 1: 535-10287-2-ND; ComponentLink1Description: Datasheet; ComponentLink1URL: http://www.abracon.com/Resonators/ABM8G.pdf; ComponentLink2Description: Digi-Key Listing; ComponentLink2URL: https://www.digikey.com/product-detail/en/ABM8G-14.31818MHZ-B4Y-T/535-10287-2-ND/2218033; Price: 0.495; Type: MHz Crystal; Device Package: 4-SMD, No Lead (DFN, LCC); Series: ABM8G; Frequency: 14.31818MHz; Frequency Tolerance: 30ppm; Load Capacitance: 10pF
footprint ABRACON ABM8G
pins: 1, 2 GND, 3, 4 GND

## ABM8G-16.000MHZ-4Y-T3
designator Y?, comment 16MHz
CRYSTAL 16.0000MHZ 10PF SMD; Part Number: ABM8G-16.000MHZ-4Y-T3; Manufacturer: Abracon LLC; Frequency Stability: 30ppm; ESR: 80 Ohm; Operating Mode: Fundamental; PartId: 8773; Supplier 1: Digi-Key; Supplier Part Number 1: 535-10907-2-ND; ComponentLink1Description: Datasheet; ComponentLink1URL: http://www.abracon.com/Resonators/ABM8G.pdf; ComponentLink2Description: Digi-Key Listing; ComponentLink2URL: https://www.digikey.com/product-detail/en/ABM8G-16.000MHZ-4Y-T3/535-10907-2-ND/2623789; Price: 0.3915; Type: MHz Crystal; Device Package: 4-SMD, No Lead (DFN, LCC); Series: ABM8G; Frequency: 16MHz; Frequency Tolerance: 30ppm; Load Capacitance: 10pF
footprint ABRACON ABM8G
pins: 1, 2 GND, 3, 4 GND

## ABM8G-16.000MHZ-18-D2Y-T
designator Y?, comment 16MHz
CRYSTAL 16.0000MHZ 18PF SMD; Part Number: ABM8G-16.000MHZ-18-D2Y-T; Manufacturer: Abracon LLC; Frequency Stability: 30ppm; Frequency Tolerance: 20ppm; ESR: 80 Ohm; Operating Mode: Fundamental; PartId: 8736; Supplier 1: Digi-Key; Supplier Part Number 1: 535-10267-2-ND; ComponentLink1Description: Datasheet; ComponentLink1URL: http://www.abracon.com/Resonators/ABM8G.pdf; ComponentLink2Description: Digi-Key Listing; ComponentLink2URL: https://www.digikey.com/product-detail/en/ABM8G-16.000MHZ-18-D2Y-T/535-10267-2-ND/2218013; Price: 0.368; Type: MHz Crystal; Device Package: 4-SMD, No Lead (DFN, LCC); Series: ABM8G; Frequency: 16MHz; Load Capacitance: 18pF
footprint ABRACON ABM8G
pins: 1, 2 GND, 3, 4 GND

## ABM8G-16.384MHZ-4Y-T3
designator Y?, comment 16.384MHz
CRYSTAL 16.3840MHZ 10PF SMD; Part Number: ABM8G-16.384MHZ-4Y-T3; Manufacturer: Abracon LLC; Frequency Stability: 30ppm; ESR: 80 Ohm; Operating Mode: Fundamental; PartId: 8780; Supplier 1: Digi-Key; Supplier Part Number 1: 535-10908-2-ND; ComponentLink1Description: Datasheet; ComponentLink1URL: http://www.abracon.com/Resonators/ABM8G.pdf; ComponentLink2Description: Digi-Key Listing; ComponentLink2URL: https://www.digikey.com/product-detail/en/ABM8G-16.384MHZ-4Y-T3/535-10908-2-ND/2623790; Price: 0.3915; Type: MHz Crystal; Device Package: 4-SMD, No Lead (DFN, LCC); Series: ABM8G; Frequency: 16.384MHz; Frequency Tolerance: 30ppm; Load Capacitance: 10pF
footprint ABRACON ABM8G
pins: 1, 2 GND, 3, 4 GND

## ABM8G-16.384MHZ-18-D2Y-T
designator Y?, comment 16.384MHz
CRYSTAL 16.3840MHZ 18PF SMD; Part Number: ABM8G-16.384MHZ-18-D2Y-T; Manufacturer: Abracon LLC; Frequency Stability: 30ppm; Frequency Tolerance: 20ppm; ESR: 80 Ohm; Operating Mode: Fundamental; PartId: 8768; Supplier 1: Digi-Key; Supplier Part Number 1: 535-10268-2-ND; ComponentLink1Description: Datasheet; ComponentLink1URL: http://www.abracon.com/Resonators/ABM8G.pdf; ComponentLink2Description: Digi-Key Listing; ComponentLink2URL: https://www.digikey.com/product-detail/en/ABM8G-16.384MHZ-18-D2Y-T/535-10268-2-ND/2218014; Price: 0.585; Type: MHz Crystal; Device Package: 4-SMD, No Lead (DFN, LCC); Series: ABM8G; Frequency: 16.384MHz; Load Capacitance: 18pF
footprint ABRACON ABM8G
pins: 1, 2 GND, 3, 4 GND

## ABM8G-16.384MHZ-B4Y-T
designator Y?, comment 16.384MHz
CRYSTAL 16.3840MHZ 10PF SMD; Part Number: ABM8G-16.384MHZ-B4Y-T; Manufacturer: Abracon LLC; Frequency Stability: 30ppm; ESR: 80 Ohm; Operating Mode: Fundamental; PartId: 8744; Supplier 1: Digi-Key; Supplier Part Number 1: 535-10290-2-ND; ComponentLink1Description: Datasheet; ComponentLink1URL: http://www.abracon.com/Resonators/ABM8G.pdf; ComponentLink2Description: Digi-Key Listing; ComponentLink2URL: https://www.digikey.com/product-detail/en/ABM8G-16.384MHZ-B4Y-T/535-10290-2-ND/2218036; Price: 0.495; Type: MHz Crystal; Device Package: 4-SMD, No Lead (DFN, LCC); Series: ABM8G; Frequency: 16.384MHz; Frequency Tolerance: 30ppm; Load Capacitance: 10pF
footprint ABRACON ABM8G
pins: 1, 2 GND, 3, 4 GND

## ABM8G-18.432MHZ-4Y-T3
designator Y?, comment 18.432MHz
CRYSTAL 18.4320MHZ 10PF SMD; Part Number: ABM8G-18.432MHZ-4Y-T3; Manufacturer: Abracon LLC; Frequency Stability: 30ppm; ESR: 80 Ohm; Operating Mode: Fundamental; PartId: 8782; Supplier 1: Digi-Key; Supplier Part Number 1: 535-10909-2-ND; ComponentLink1Description: Datasheet; ComponentLink1URL: http://www.abracon.com/Resonators/ABM8G.pdf; ComponentLink2Description: Digi-Key Listing; ComponentLink2URL: https://www.digikey.com/product-detail/en/ABM8G-18.432MHZ-4Y-T3/535-10909-2-ND/2623791; Price: 0.3915; Type: MHz Crystal; Device Package: 4-SMD, No Lead (DFN, LCC); Series: ABM8G; Frequency: 18.432MHz; Frequency Tolerance: 30ppm; Load Capacitance: 10pF
footprint ABRACON ABM8G
pins: 1, 2 GND, 3, 4 GND

## ABM8G-18.432MHZ-18-D2Y-T
designator Y?, comment 18.432MHz
CRYSTAL 18.4320MHZ 18PF SMD; Part Number: ABM8G-18.432MHZ-18-D2Y-T; Manufacturer: Abracon LLC; Frequency Stability: 30ppm; Frequency Tolerance: 20ppm; ESR: 80 Ohm; Operating Mode: Fundamental; PartId: 8765; Supplier 1: Digi-Key; Supplier Part Number 1: 535-10269-2-ND; ComponentLink1Description: Datasheet; ComponentLink1URL: http://www.abracon.com/Resonators/ABM8G.pdf; ComponentLink2Description: Digi-Key Listing; ComponentLink2URL: https://www.digikey.com/product-detail/en/ABM8G-18.432MHZ-18-D2Y-T/535-10269-2-ND/2218015; Price: 0.585; Type: MHz Crystal; Device Package: 4-SMD, No Lead (DFN, LCC); Series: ABM8G; Frequency: 18.432MHz; Load Capacitance: 18pF
footprint ABRACON ABM8G
pins: 1, 2 GND, 3, 4 GND

## ABM8G-18.432MHZ-B4Y-T
designator Y?, comment 18.432MHz
CRYSTAL 18.4320MHZ 10PF SMD; Part Number: ABM8G-18.432MHZ-B4Y-T; Manufacturer: Abracon LLC; Frequency Stability: 30ppm; ESR: 80 Ohm; Operating Mode: Fundamental; PartId: 8755; Supplier 1: Digi-Key; Supplier Part Number 1: 535-10291-2-ND; ComponentLink1Description: Datasheet; ComponentLink1URL: http://www.abracon.com/Resonators/ABM8G.pdf; ComponentLink2Description: Digi-Key Listing; ComponentLink2URL: https://www.digikey.com/product-detail/en/ABM8G-18.432MHZ-B4Y-T/535-10291-2-ND/2218037; Price: 0.495; Type: MHz Crystal; Device Package: 4-SMD, No Lead (DFN, LCC); Series: ABM8G; Frequency: 18.432MHz; Frequency Tolerance: 30ppm; Load Capacitance: 10pF
footprint ABRACON ABM8G
pins: 1, 2 GND, 3, 4 GND

## ABM8G-19.6608MHZ-4Y-T3
designator Y?, comment 19.6608MHz
CRYSTAL 19.6608MHZ 10PF SMD; Part Number: ABM8G-19.6608MHZ-4Y-T3; Manufacturer: Abracon LLC; Frequency Stability: 30ppm; ESR: 80 Ohm; Operating Mode: Fundamental; PartId: 8785; Supplier 1: Digi-Key; Supplier Part Number 1: 535-10910-2-ND; ComponentLink1Description: Datasheet; ComponentLink1URL: http://www.abracon.com/Resonators/ABM8G.pdf; ComponentLink2Description: Digi-Key Listing; ComponentLink2URL: https://www.digikey.com/product-detail/en/ABM8G-19.6608MHZ-4Y-T3/535-10910-2-ND/2623792; Price: 0.3915; Type: MHz Crystal; Device Package: 4-SMD, No Lead (DFN, LCC); Series: ABM8G; Frequency: 19.6608MHz; Frequency Tolerance: 30ppm; Load Capacitance: 10pF
footprint ABRACON ABM8G
pins: 1, 2 GND, 3, 4 GND

## ABM8G-19.6608MHZ-18-D2Y-T
designator Y?, comment 19.6608MHz
CRYSTAL 19.6608MHZ 18PF SMD; Part Number: ABM8G-19.6608MHZ-18-D2Y-T; Manufacturer: Abracon LLC; Frequency Stability: 30ppm; Frequency Tolerance: 20ppm; ESR: 80 Ohm; Operating Mode: Fundamental; PartId: 8753; Supplier 1: Digi-Key; Supplier Part Number 1: 535-10270-2-ND; ComponentLink1Description: Datasheet; ComponentLink1URL: http://www.abracon.com/Resonators/ABM8G.pdf; ComponentLink2Description: Digi-Key Listing; ComponentLink2URL: https://www.digikey.com/product-detail/en/ABM8G-19.6608MHZ-18-D2Y-T/535-10270-2-ND/2218016; Price: 0.585; Type: MHz Crystal; Device Package: 4-SMD, No Lead (DFN, LCC); Series: ABM8G; Frequency: 19.6608MHz; Load Capacitance: 18pF
footprint ABRACON ABM8G
pins: 1, 2 GND, 3, 4 GND

## ABM8G-19.6608MHZ-B4Y-T
designator Y?, comment 19.6608MHz
CRYSTAL 19.6608MHZ 10PF SMD; Part Number: ABM8G-19.6608MHZ-B4Y-T; Manufacturer: Abracon LLC; Frequency Stability: 30ppm; ESR: 80 Ohm; Operating Mode: Fundamental; PartId: 8757; Supplier 1: Digi-Key; Supplier Part Number 1: 535-10292-2-ND; ComponentLink1Description: Datasheet; ComponentLink1URL: http://www.abracon.com/Resonators/ABM8G.pdf; ComponentLink2Description: Digi-Key Listing; ComponentLink2URL: https://www.digikey.com/product-detail/en/ABM8G-19.6608MHZ-B4Y-T/535-10292-2-ND/2218038; Price: 0.495; Type: MHz Crystal; Device Package: 4-SMD, No Lead (DFN, LCC); Series: ABM8G; Frequency: 19.6608MHz; Frequency Tolerance: 30ppm; Load Capacitance: 10pF
footprint ABRACON ABM8G
pins: 1, 2 GND, 3, 4 GND

## ABM8G-20.000MHZ-4Y-T3
designator Y?, comment 20MHz
CRYSTAL 20.0000MHZ 10PF SMD; Part Number: ABM8G-20.000MHZ-4Y-T3; Manufacturer: Abracon LLC; Frequency Stability: 30ppm; ESR: 80 Ohm; Operating Mode: Fundamental; PartId: 8775; Supplier 1: Digi-Key; Supplier Part Number 1: 535-10911-2-ND; ComponentLink1Description: Datasheet; ComponentLink1URL: http://www.abracon.com/Resonators/ABM8G.pdf; ComponentLink2Description: Digi-Key Listing; ComponentLink2URL: https://www.digikey.com/product-detail/en/ABM8G-20.000MHZ-4Y-T3/535-10911-2-ND/2623793; Price: 0.3915; Type: MHz Crystal; Device Package: 4-SMD, No Lead (DFN, LCC); Series: ABM8G; Frequency: 20MHz; Frequency Tolerance: 30ppm; Load Capacitance: 10pF
footprint ABRACON ABM8G
pins: 1, 2 GND, 3, 4 GND

## ABM8G-20.000MHZ-18-D2Y-T
designator Y?, comment 20MHz
CRYSTAL 20.0000MHZ 18PF SMD; Part Number: ABM8G-20.000MHZ-18-D2Y-T; Manufacturer: Abracon LLC; Frequency Stability: 30ppm; Frequency Tolerance: 20ppm; ESR: 80 Ohm; Operating Mode: Fundamental; PartId: 8748; Supplier 1: Digi-Key; Supplier Part Number 1: 535-10271-2-ND; ComponentLink1Description: Datasheet; ComponentLink1URL: http://www.abracon.com/Resonators/ABM8G.pdf; ComponentLink2Description: Digi-Key Listing; ComponentLink2URL: https://www.digikey.com/product-detail/en/ABM8G-20.000MHZ-18-D2Y-T/535-10271-2-ND/2218017; Price: 0.384; Type: MHz Crystal; Device Package: 4-SMD, No Lead (DFN, LCC); Series: ABM8G; Frequency: 20MHz; Load Capacitance: 18pF
footprint ABRACON ABM8G
pins: 1, 2 GND, 3, 4 GND

## ABM8G-20.000MHZ-B4Y-T
designator Y?, comment 20MHz
CRYSTAL 20.0000MHZ 10PF SMD; Part Number: ABM8G-20.000MHZ-B4Y-T; Manufacturer: Abracon LLC; Frequency Stability: 30ppm; ESR: 80 Ohm; Operating Mode: Fundamental; PartId: 8750; Supplier 1: Digi-Key; Supplier Part Number 1: 535-10293-2-ND; ComponentLink1Description: Datasheet; ComponentLink1URL: http://www.abracon.com/Resonators/ABM8G.pdf; ComponentLink2Description: Digi-Key Listing; ComponentLink2URL: https://www.digikey.com/product-detail/en/ABM8G-20.000MHZ-B4Y-T/535-10293-2-ND/2218039; Price: 0.495; Type: MHz Crystal; Device Package: 4-SMD, No Lead (DFN, LCC); Series: ABM8G; Frequency: 20MHz; Frequency Tolerance: 30ppm; Load Capacitance: 10pF
footprint ABRACON ABM8G
pins: 1, 2 GND, 3, 4 GND

## ABM8G-22.1184MHZ-4Y-T3
designator Y?, comment 22.1184MHz
CRYSTAL 22.1184MHZ 10PF SMD; Part Number: ABM8G-22.1184MHZ-4Y-T3; Manufacturer: Abracon LLC; Frequency Stability: 30ppm; ESR: 60 Ohm; Operating Mode: Fundamental; PartId: 8787; Supplier 1: Digi-Key; Supplier Part Number 1: 535-10912-2-ND; ComponentLink1Description: Datasheet; ComponentLink1URL: http://www.abracon.com/Resonators/ABM8G.pdf; ComponentLink2Description: Digi-Key Listing; ComponentLink2URL: https://www.digikey.com/product-detail/en/ABM8G-22.1184MHZ-4Y-T3/535-10912-2-ND/2623794; Price: 0.3915; Type: MHz Crystal; Device Package: 4-SMD, No Lead (DFN, LCC); Series: ABM8G; Frequency: 22.1184MHz; Frequency Tolerance: 30ppm; Load Capacitance: 10pF
footprint ABRACON ABM8G
pins: 1, 2 GND, 3, 4 GND

## ABM8G-22.1184MHZ-B4Y-T
designator Y?, comment 22.1184MHz
CRYSTAL 22.1184MHZ 10PF SMD; Part Number: ABM8G-22.1184MHZ-B4Y-T; Manufacturer: Abracon LLC; Frequency Stability: 30ppm; ESR: 60 Ohm; Operating Mode: Fundamental; PartId: 8758; Supplier 1: Digi-Key; Supplier Part Number 1: 535-10294-2-ND; ComponentLink1Description: Datasheet; ComponentLink1URL: http://www.abracon.com/Resonators/ABM8G.pdf; ComponentLink2Description: Digi-Key Listing; ComponentLink2URL: https://www.digikey.com/product-detail/en/ABM8G-22.1184MHZ-B4Y-T/535-10294-2-ND/2218040; Price: 0.495; Type: MHz Crystal; Device Package: 4-SMD, No Lead (DFN, LCC); Series: ABM8G; Frequency: 22.1184MHz; Frequency Tolerance: 30ppm; Load Capacitance: 10pF
footprint ABRACON ABM8G
pins: 1, 2 GND, 3, 4 GND

## ABM8G-24.000MHZ-4Y-T3
designator Y?, comment 24MHz
CRYSTAL 24.0000MHZ 10PF SMD; Part Number: ABM8G-24.000MHZ-4Y-T3; Manufacturer: Abracon LLC; Frequency Stability: 30ppm; ESR: 60 Ohm; Operating Mode: Fundamental; PartId: 8776; Supplier 1: Digi-Key; Supplier Part Number 1: 535-10913-2-ND; ComponentLink1Description: Datasheet; ComponentLink1URL: http://www.abracon.com/Resonators/ABM8G.pdf; ComponentLink2Description: Digi-Key Listing; ComponentLink2URL: https://www.digikey.com/product-detail/en/ABM8G-24.000MHZ-4Y-T3/535-10913-2-ND/2623795; Price: 0.3915; Type: MHz Crystal; Device Package: 4-SMD, No Lead (DFN, LCC); Series: ABM8G; Frequency: 24MHz; Frequency Tolerance: 30ppm; Load Capacitance: 10pF
footprint ABRACON ABM8G
pins: 1, 2 GND, 3, 4 GND

## ABM8G-24.000MHZ-18-D2Y-T
designator Y?, comment 24MHz
CRYSTAL 24.0000MHZ 18PF SMD; Part Number: ABM8G-24.000MHZ-18-D2Y-T; Manufacturer: Abracon LLC; Frequency Stability: 30ppm; Frequency Tolerance: 20ppm; ESR: 60 Ohm; Operating Mode: Fundamental; PartId: 8739; Supplier 1: Digi-Key; Supplier Part Number 1: 535-10273-2-ND; ComponentLink1Description: Datasheet; ComponentLink1URL: http://www.abracon.com/Resonators/ABM8G.pdf; ComponentLink2Description: Digi-Key Listing; ComponentLink2URL: https://www.digikey.com/product-detail/en/ABM8G-24.000MHZ-18-D2Y-T/535-10273-2-ND/2218019; Price: 0.368; Type: MHz Crystal; Device Package: 4-SMD, No Lead (DFN, LCC); Series: ABM8G; Frequency: 24MHz; Load Capacitance: 18pF
footprint ABRACON ABM8G
pins: 1, 2 GND, 3, 4 GND

## ABM8G-24.000MHZ-B4Y-T
designator Y?, comment 24MHz
CRYSTAL 24.0000MHZ 10PF SMD; Part Number: ABM8G-24.000MHZ-B4Y-T; Manufacturer: Abracon LLC; Frequency Stability: 30ppm; ESR: 60 Ohm; Operating Mode: Fundamental; PartId: 8747; Supplier 1: Digi-Key; Supplier Part Number 1: 535-10295-2-ND; ComponentLink1Description: Datasheet; ComponentLink1URL: http://www.abracon.com/Resonators/ABM8G.pdf; ComponentLink2Description: Digi-Key Listing; ComponentLink2URL: https://www.digikey.com/product-detail/en/ABM8G-24.000MHZ-B4Y-T/535-10295-2-ND/2218041; Price: 0.352; Type: MHz Crystal; Device Package: 4-SMD, No Lead (DFN, LCC); Series: ABM8G; Frequency: 24MHz; Frequency Tolerance: 30ppm; Load Capacitance: 10pF
footprint ABRACON ABM8G
pins: 1, 2 GND, 3, 4 GND

## ABM8G-24.576MHZ-4Y-T3
designator Y?, comment 24.576MHz
CRYSTAL 24.5760MHZ 10PF SMD; Part Number: ABM8G-24.576MHZ-4Y-T3; Manufacturer: Abracon LLC; Frequency Stability: 30ppm; ESR: 60 Ohm; Operating Mode: Fundamental; PartId: 8777; Supplier 1: Digi-Key; Supplier Part Number 1: 535-10914-2-ND; ComponentLink1Description: Datasheet; ComponentLink1URL: http://www.abracon.com/Resonators/ABM8G.pdf; ComponentLink2Description: Digi-Key Listing; ComponentLink2URL: https://www.digikey.com/product-detail/en/ABM8G-24.576MHZ-4Y-T3/535-10914-2-ND/2623796; Price: 0.3915; Type: MHz Crystal; Device Package: 4-SMD, No Lead (DFN, LCC); Series: ABM8G; Frequency: 24.576MHz; Frequency Tolerance: 30ppm; Load Capacitance: 10pF
footprint ABRACON ABM8G
pins: 1, 2 GND, 3, 4 GND

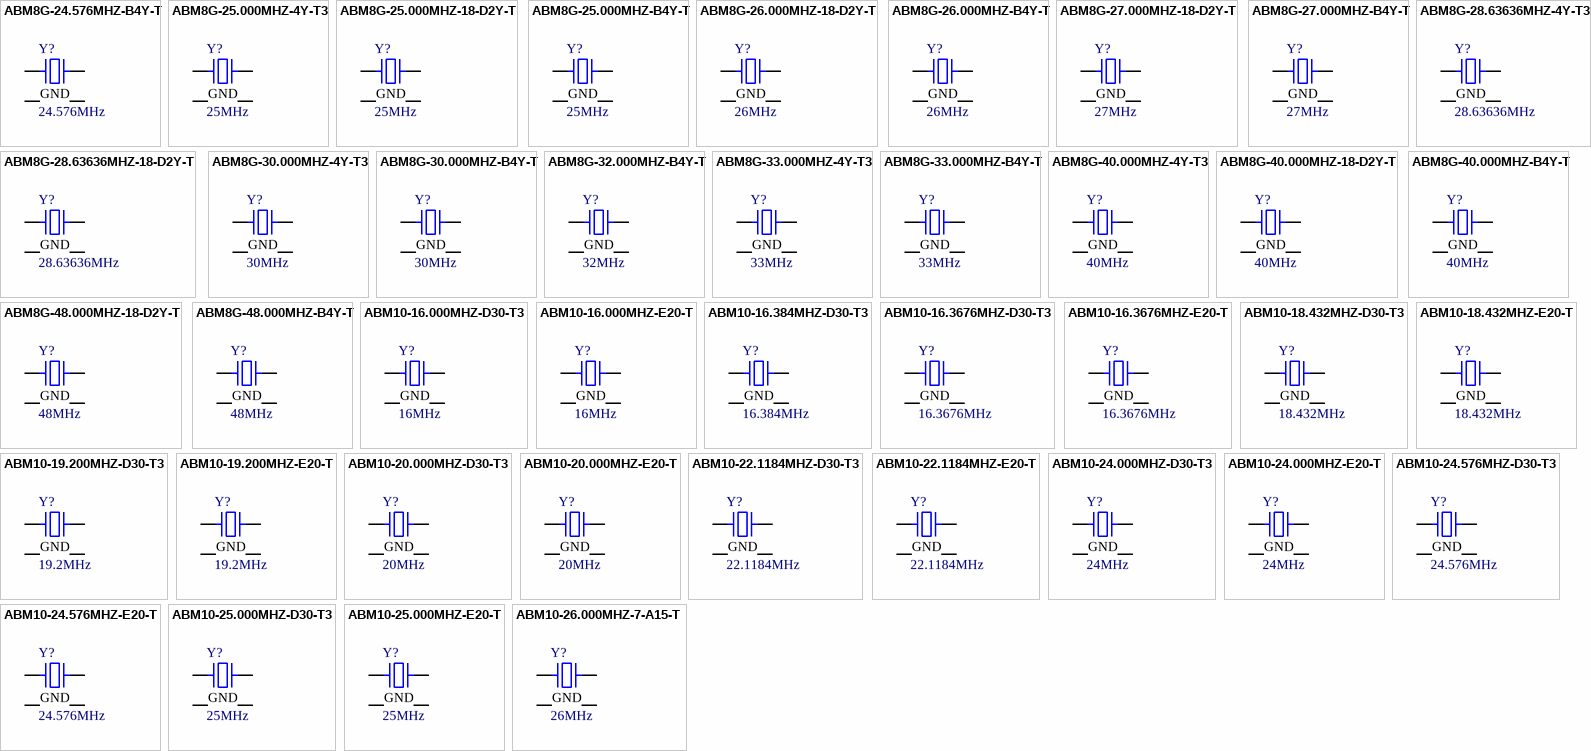
[diagram p5: symbols ABM8G-24.576MHZ-B4Y-T to ABM10-26.000MHZ-7-A15-T]

## ABM8G-24.576MHZ-B4Y-T
designator Y?, comment 24.576MHz
CRYSTAL 24.5760MHZ 10PF SMD; Part Number: ABM8G-24.576MHZ-B4Y-T; Manufacturer: Abracon LLC; Frequency Stability: 30ppm; ESR: 60 Ohm; Operating Mode: Fundamental; PartId: 8762; Supplier 1: Digi-Key; Supplier Part Number 1: 535-10296-2-ND; ComponentLink1Description: Datasheet; ComponentLink1URL: http://www.abracon.com/Resonators/ABM8G.pdf; ComponentLink2Description: Digi-Key Listing; ComponentLink2URL: https://www.digikey.com/product-detail/en/ABM8G-24.576MHZ-B4Y-T/535-10296-2-ND/2218042; Price: 0.495; Type: MHz Crystal; Device Package: 4-SMD, No Lead (DFN, LCC); Series: ABM8G; Frequency: 24.576MHz; Frequency Tolerance: 30ppm; Load Capacitance: 10pF
footprint ABRACON ABM8G
pins: 1, 2 GND, 3, 4 GND

## ABM8G-25.000MHZ-4Y-T3
designator Y?, comment 25MHz
CRYSTAL 25.0000MHZ 10PF SMD; Part Number: ABM8G-25.000MHZ-4Y-T3; Manufacturer: Abracon LLC; Frequency Stability: 30ppm; ESR: 60 Ohm; Operating Mode: Fundamental; PartId: 8772; Supplier 1: Digi-Key; Supplier Part Number 1: 535-10915-2-ND; ComponentLink1Description: Datasheet; ComponentLink1URL: http://www.abracon.com/Resonators/ABM8G.pdf; ComponentLink2Description: Digi-Key Listing; ComponentLink2URL: https://www.digikey.com/product-detail/en/ABM8G-25.000MHZ-4Y-T3/535-10915-2-ND/2623797; Price: 0.3915; Type: MHz Crystal; Device Package: 4-SMD, No Lead (DFN, LCC); Series: ABM8G; Frequency: 25MHz; Frequency Tolerance: 30ppm; Load Capacitance: 10pF
footprint ABRACON ABM8G
pins: 1, 2 GND, 3, 4 GND

## ABM8G-25.000MHZ-18-D2Y-T
designator Y?, comment 25MHz
CRYSTAL 25.0000MHZ 18PF SMD; Part Number: ABM8G-25.000MHZ-18-D2Y-T; Manufacturer: Abracon LLC; Frequency Stability: 30ppm; Frequency Tolerance: 20ppm; ESR: 60 Ohm; Operating Mode: Fundamental; PartId: 8738; Supplier 1: Digi-Key; Supplier Part Number 1: 535-10275-2-ND; ComponentLink1Description: Datasheet; ComponentLink1URL: http://www.abracon.com/Resonators/ABM8G.pdf; ComponentLink2Description: Digi-Key Listing; ComponentLink2URL: https://www.digikey.com/product-detail/en/ABM8G-25.000MHZ-18-D2Y-T/535-10275-2-ND/2218021; Price: 0.368; Type: MHz Crystal; Device Package: 4-SMD, No Lead (DFN, LCC); Series: ABM8G; Frequency: 25MHz; Load Capacitance: 18pF
footprint ABRACON ABM8G
pins: 1, 2 GND, 3, 4 GND

## ABM8G-25.000MHZ-B4Y-T
designator Y?, comment 25MHz
CRYSTAL 25.0000MHZ 10PF SMD; Part Number: ABM8G-25.000MHZ-B4Y-T; Manufacturer: Abracon LLC; Frequency Stability: 30ppm; ESR: 60 Ohm; Operating Mode: Fundamental; PartId: 8735; Supplier 1: Digi-Key; Supplier Part Number 1: 535-10297-2-ND; ComponentLink1Description: Datasheet; ComponentLink1URL: http://www.abracon.com/Resonators/ABM8G.pdf; ComponentLink2Description: Digi-Key Listing; ComponentLink2URL: https://www.digikey.com/product-detail/en/ABM8G-25.000MHZ-B4Y-T/535-10297-2-ND/2218043; Price: 0.352; Type: MHz Crystal; Device Package: 4-SMD, No Lead (DFN, LCC); Series: ABM8G; Frequency: 25MHz; Frequency Tolerance: 30ppm; Load Capacitance: 10pF
footprint ABRACON ABM8G
pins: 1, 2 GND, 3, 4 GND

## ABM8G-26.000MHZ-18-D2Y-T
designator Y?, comment 26MHz
CRYSTAL 26.0000MHZ 18PF SMD; Part Number: ABM8G-26.000MHZ-18-D2Y-T; Manufacturer: Abracon LLC; Frequency Stability: 30ppm; Frequency Tolerance: 20ppm; ESR: 60 Ohm; Operating Mode: Fundamental; PartId: 8740; Supplier 1: Digi-Key; Supplier Part Number 1: 535-10276-2-ND; ComponentLink1Description: Datasheet; ComponentLink1URL: http://www.abracon.com/Resonators/ABM8G.pdf; ComponentLink2Description: Digi-Key Listing; ComponentLink2URL: https://www.digikey.com/product-detail/en/ABM8G-26.000MHZ-18-D2Y-T/535-10276-2-ND/2218022; Price: 0.368; Type: MHz Crystal; Device Package: 4-SMD, No Lead (DFN, LCC); Series: ABM8G; Frequency: 26MHz; Load Capacitance: 18pF
footprint ABRACON ABM8G
pins: 1, 2 GND, 3, 4 GND